# EAGLE library part BTM400_6B (library misc)
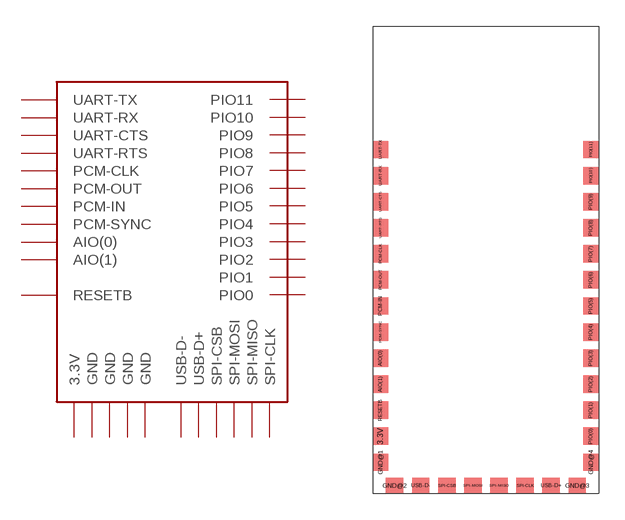
[diagram p1: symbol with the pads of BTM400_6B; footprint BTM400_6B]

Designator prefix -

## BTM400_6B  [BTM400_6B]
3.3V  3.3V  pwr
AIO(0)  AIO(0)
AIO(1)  AIO(1)
GND@1  GND  pwr
GND@2  GND  pwr
GND@3  GND  pwr
GND@4  GND  pwr
PCM-CLK  PCM-CLK
PCM-IN  PCM-IN
PCM-OUT  PCM-OUT
PCM-SYNC  PCM-SYNC
PIO(0)  PIO0
PIO(1)  PIO1
PIO(2)  PIO2
PIO(3)  PIO3
PIO(4)  PIO4
PIO(5)  PIO5
PIO(6)  PIO6
PIO(7)  PIO7
PIO(8)  PIO8
PIO(9)  PIO9
PIO(10)  PIO10
PIO(11)  PIO11
RESETB  RESETB
SPI-CLK  SPI-CLK
SPI-CSB  SPI-CSB
SPI-MISO  SPI-MISO
SPI-MOSI  SPI-MOSI
UART-CTS  UART-CTS
UART-RTS  UART-RTS
UART-RX  UART-RX
UART-TX  UART-TX
USB-D+  USB-D+
USB-D-  USB-D-

## Footprint BTM400_6B (pad centres in mm)
smd 0.9 x 1: 3.3V -6.05,-10.16; AIO(0) -6.05,-5.66; AIO(1) -6.05,-7.16; GND@1 -6.05,-11.66; GND@4 6.05,-11.66; PCM-CLK -6.05,0.34; PCM-IN -6.05,-2.66; PCM-OUT -6.05,-1.16; PCM-SYNC -6.05,-4.16; PIO(0) 6.05,-10.16; PIO(1) 6.05,-8.66; PIO(2) 6.05,-7.16; PIO(3) 6.05,-5.66; PIO(4) 6.05,-4.16; PIO(5) 6.05,-2.66; PIO(6) 6.05,-1.16; PIO(7) 6.05,0.34; PIO(8) 6.05,1.84; PIO(9) 6.05,3.34; PIO(10) 6.05,4.84; PIO(11) 6.05,6.34; RESETB -6.05,-8.66; UART-CTS -6.05,3.34; UART-RTS -6.05,1.84; UART-RX -6.05,4.84; UART-TX -6.05,6.34
smd 1 x 0.9: GND@2 -5.23,-13; GND@3 5.27,-13; SPI-CLK 2.27,-13; SPI-CSB -2.23,-13; SPI-MISO 0.77,-13; SPI-MOSI -0.73,-13; USB-D+ 3.77,-13; USB-D- -3.73,-13